# Altium schematic symbol library ABS07-166-32P768KHZ-T.SchLib: 2 symbols
Pins are listed as number, name and electrical type; pins without a type are passive.

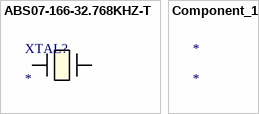
[diagram p0: symbols ABS07-166-32.768KHZ-T to Component_1]

## ABS07-166-32.768KHZ-T
designator XTAL?
No Description Available; Mfr_Name: Abracon
footprint XTAL_ABS07-166-32.768KHZ-T_ABR
pins: 1, 2

## Component_1
designator *